# Altium footprint library zhaichl.PcbLib: 24 footprints (part 1 of 2)
Each footprint in its own frame and in the unit in brackets; x right, y up, seen from the top. Pads: shape width x height; smd on the part's side, far side on the other; paste and mask are expansions set on the pad; w line width, h text height; cw(c..) or ccw(c..) is an arc to the next point about the centre after c.
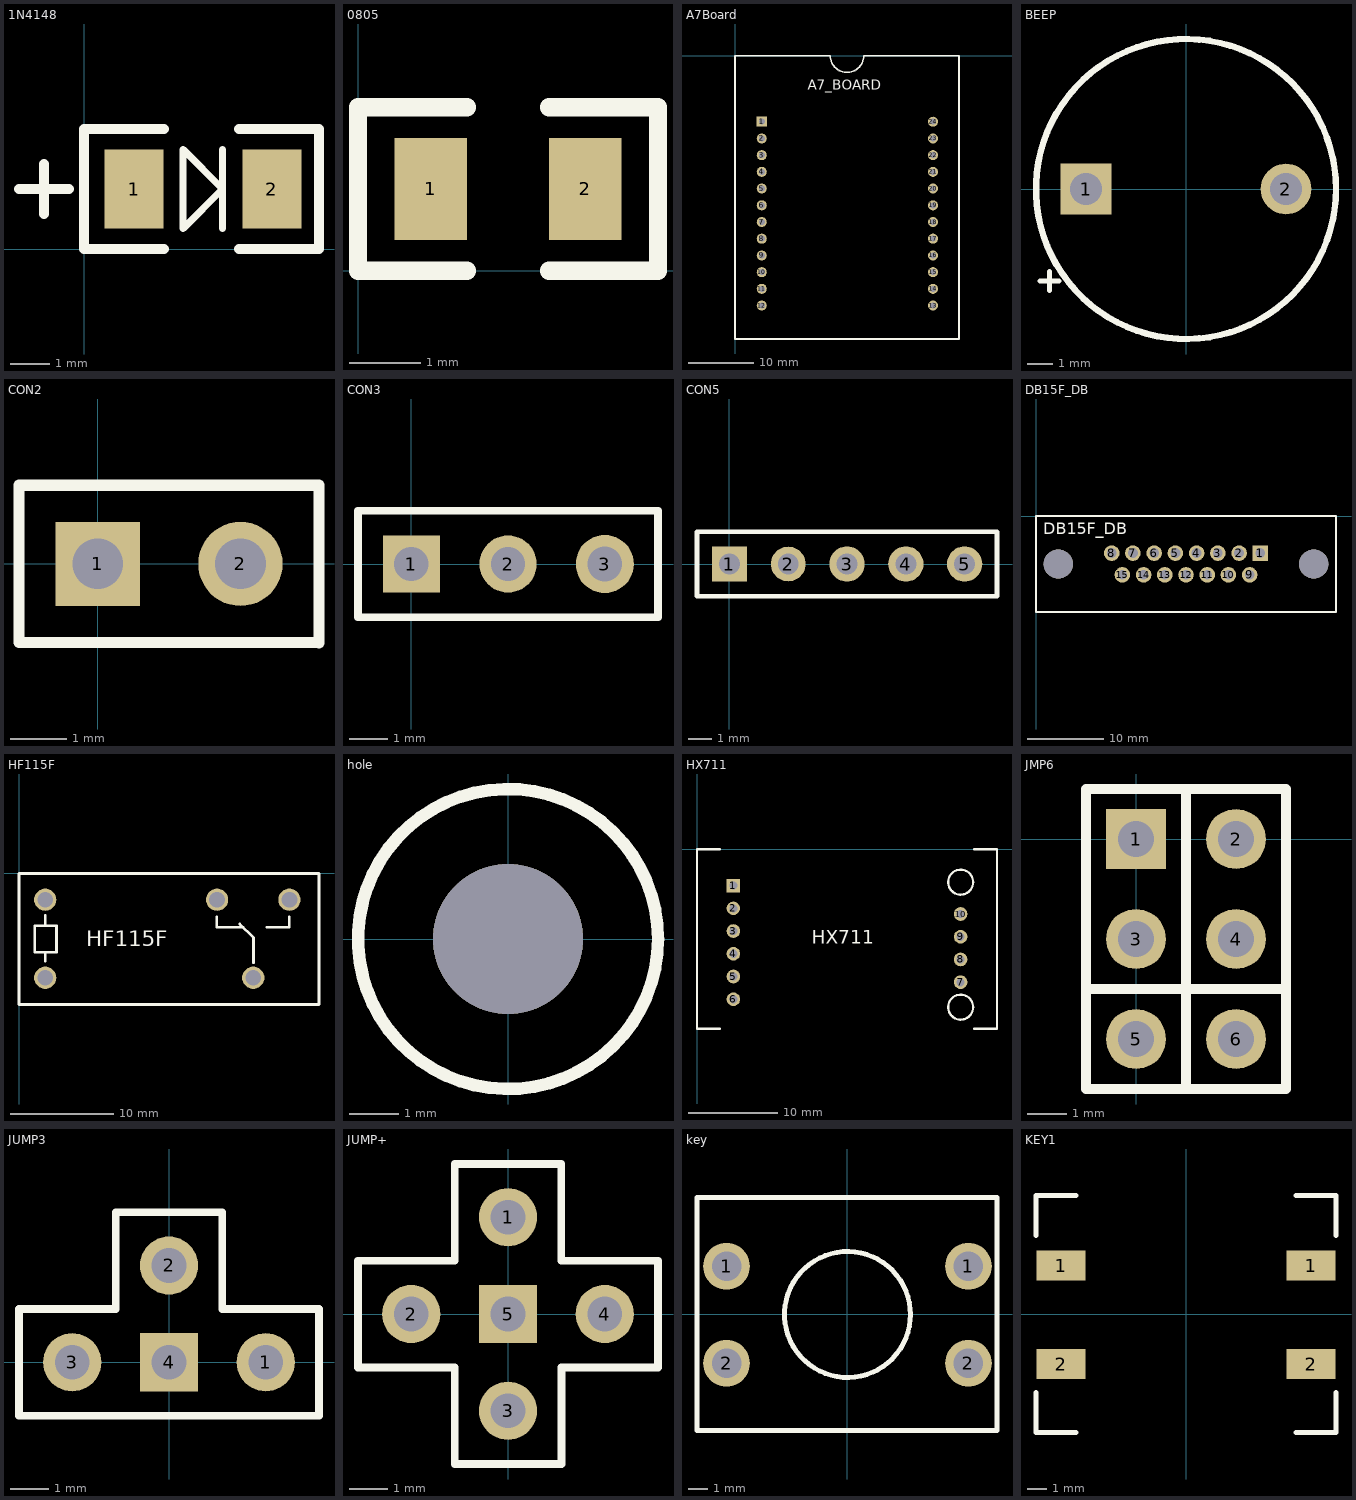
[diagram p0: the footprints below, top view; thin cyan lines are the x and y axes]

## 1N4148 [mm]
pads (2):
  rect 1.5x2 smd: 1(1.27,1.524) 2(4.77,1.524)
Top Overlay:
  lines w0.178: 3.52,0.524 3.52,2.524 ; 2.52,0.524 3.52,1.524 2.52,2.524 2.52,0.524
  lines w0.254: -1.651,1.524 -0.381,1.524 ; -1.016,0.889 -1.016,2.159 ; 2.032,0 0,0 0,3.048 2.032,3.048 ; 3.937,0 5.969,0 5.969,3.048 3.937,3.048

## 0805 [mil]
pads (2):
  rect 40x56 smd: 1(40,45) 2(125,45)
Top Overlay:
  lines w10: 60,0 0,0 0,90 60,90 ; 105,0 165,0 165,90 105,90

## A7Board [mil]
pads (24):
  rect 60x60 hole 36: 1(160,-395)
  round 60 hole 36: 2(160,-495) 3(160,-595) 4(160,-695) 5(160,-795) 6(160,-895) 7(160,-995) 8(160,-1095) 9(160,-1195) 10(160,-1295) 11(160,-1395) 12(160,-1495) 13(1185,-1495) 14(1185,-1395) 15(1185,-1295) 16(1185,-1195) 17(1185,-1095) 18(1185,-995) 19(1185,-895) 20(1185,-795) 21(1185,-695) 22(1185,-595) 23(1185,-495) 24(1185,-395)
Top Overlay:
  lines w10: 0,-1615 0,-1695 ; 0,-880 0,-800 ; 0,-80 0,0 ; 80,-1695 0,-1695 ; 80,0 0,0 ; 490,0 570,0 ; 630,-1695 710,-1695 ; 850,0 770,0 ; 1260,-1695 1340,-1695 ; 1260,0 1340,0 ; 1340,-1615 1340,-1695 ; 1340,-880 1340,-800 ; 1340,-80 1340,0 ; 0,-1695 1340,-1695 ; 0,-1695 0,0 ; 0,0 570,0 ; 570,0 ccw(c670,0) 770,0 ; 770,0 1340,0 ; 1340,-1695 1340,0
  text "A7_BOARD" at 435,-205 h60

## BEEP [mil]
pads (2):
  rect 80x80 hole 50: 1(-157.48,0)
  round 80 hole 50: 2(157.48,0)
Top Overlay:
  circle w10: c0,0 r236.22
  lines w7.87: -230,-145 -200,-145 -230,-145 ; -215,-160 -215,-130 -215,-160

## CON2 [mm]
pads (2):
  rect 1.5x1.5 hole 0.9: 1(0,0)
  round 1.5 hole 0.9: 2(2.54,0)
Top Overlay:
  lines w0.2: 3.937,-1.403 3.937,1.397 ; 3.937,-1.4 -1.4,-1.4 -1.4,1.4 3.937,1.4

## CON3 [mm]
pads (3):
  rect 1.5x1.5 hole 0.9: 1(0,0)
  round 1.5 hole 0.9: 2(2.54,0)
  round 1.524 hole 0.914: 3(5.08,0)
Top Overlay:
  lines w0.2: -1.4,-1.4 6.477,-1.4 6.477,1.4 -1.4,1.4 -1.4,-1.4

## CON5 [mil]
pads (5):
  rect 59.06x59.06 hole 35.43: 1(0,0)
  round 59.06 hole 35.43: 2(100,0)
  round 60 hole 36: 3(200,0) 4(300,0) 5(400,0)
Top Overlay:
  lines w7.87: -55.12,-55.12 -55.12,55.12 455,55.12 455,-55.12 -55.12,-55.12

## DB15F_DB [mil]
pads (17):
  rect 80x80 hole 50: 1(1152,-189.75)
  round 80 hole 50: 2(1043,-189.75) 3(934,-189.75) 4(825,-189.75) 5(716,-189.75) 6(607,-189.75) 7(498,-189.75) 8(389,-189.75) 9(1097.5,-301.75) 10(988.5,-301.75) 11(879.5,-301.75) 12(770.5,-301.75) 13(661.5,-301.75) 14(552.5,-301.75) 15(443.5,-301.75)
  round 150 hole 150: ""(114.6,-246) ""(1426.4,-246)
Top Overlay:
  lines w10: 441,-299.25 443.5,-301.75 ; 0,-492 0,0 1541,0 1541,-492 0,-492
  text "DB15F_DB" at 36,-93 h60

## HF115F [mil]
pads (5):
  round 85 hole 60: ""(100,-398) ""(100,-100) ""(756,-100) ""(894,-398) ""(1032,-100)
Top Overlay:
  lines w10: 100,-335 100,-300 ; 100,-200 100,-160 ; 755,-165 755,-205 855,-205 ; 842.5,-192.5 895,-245 895,-265 895,-340 ; 945,-205 1031,-205 1031,-165 ; 0,-500 0,0 1145,0 1145,-500 0,-500 ; 60,-300 60,-200 143,-200 143,-300 60,-300
  text "HF115F" at 257,-277 h60

## hole [mil]
pads (1):
  round 120 hole 120: ""(0,0)
Top Overlay:
  circle w10: c0,0 r120

## HX711 [mil]
pads (10):
  rect 59.06x59.06 hole 35.43: 1(160,-160)
  round 59.06 hole 35.43: 2(160,-260)
  round 60 hole 36: 3(160,-360) 4(160,-460) 5(160,-560) 6(160,-660) 7(1160,-585) 8(1160,-485) 9(1160,-385) 10(1160,-285)
Top Overlay:
  circle w10: c1160,-145 r55
  circle w10: c1160,-695 r55
  lines w10: 0,-690 0,-790 ; 0,-100 0,0 ; 100,-790 0,-790 ; 100,0 0,0 ; 1220,-790 1320,-790 ; 1220,0 1320,0 ; 1320,-690 1320,-790 ; 1320,-100 1320,0 ; 0,-790 0,0 ; 1320,-790 1320,0
  text "HX711" at 505,-415 h60

## JMP6 [mil]
pads (6):
  rect 60x60 hole 36: 1(0,0)
  round 60 hole 36: 2(100,0) 3(0,-100) 4(100,-100) 5(0,-200) 6(100,-200)
Top Overlay:
  lines w10: -50,-150 150,-150 ; 50,-250 50,50 ; -50,-250 150,-250 150,50 -50,50 -50,-250

## JUMP3 [mil]
pads (4):
  round 60 hole 36: 1(100,0) 2(0,100) 3(-100,0)
  rect 60x60 hole 36: 4(0,0)
Top Overlay:
  lines w7.87: 155,-55.24 -155,-55.24 -155,55 -55,55 -55,155 55,155 55,55 155,55 155,-55

## JUMP+ [mil]
pads (5):
  round 60 hole 36: 1(0,100) 2(-100,0) 3(0,-100) 4(100,0)
  rect 60x60 hole 36: 5(0,0)
Top Overlay:
  lines w7.87: -55,-55.24 -155,-55.24 -155,55 -55,55 -55,155 55,155 55,55 155,55 155,-55 ; -55,-55 -55,-155 55.24,-155 55.24,-55 ; 55,-55.24 155,-55.24

## key [mil]
pads (4):
  round 95 hole 60: 1(-245,97) 1(247,97) 2(-245,-100) 2(247,-100)
Top Overlay:
  circle w10: c1,-1 r128.06
  lines w10: -305,-237 305,-237 305,235 ; -305,-235 -305,237 305,237

## KEY1 [mm]
pads (4):
  rect 2.508x1.5 smd: 1(-6.35,2.464) 1(6.35,2.464) 2(-6.35,-2.54) 2(6.35,-2.54)
Top Overlay:
  lines w0.254: -7.62,-3.988 -7.62,-6.02 -5.588,-6.02 ; -7.62,3.988 -7.62,6.02 -5.588,6.02 ; 5.588,-6.02 7.62,-6.02 7.62,-3.988 ; 5.588,6.02 7.62,6.02 7.62,3.988